# EAGLE library part HD-H107 (library display-hp)
LED DISPLAY + - 1/2 character, decimal point right
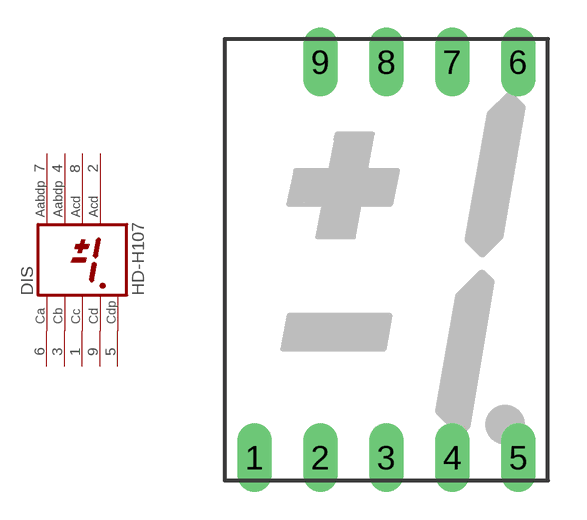
[diagram p23: symbol with the pads of HDSP-O; footprint HDSP-O]

Designator prefix DIS

## HD-H107 (OC_FARNELL: unknown; OC_NEWARK: unknown)  [HDSP-O]
1  CC  pas
2  ACD  pas
3  CB  pas
4  AABDP  pas
5  CDP  pas
6  CA  pas
7  AABDP  pas
8  ACD  pas
9  CD  pas

## Footprint HDSP-O (pad centres in mm)
LED DISPLAY 15-mm + - 1/2 character, decimal point right
drill 0.813 long: 1 -5.08,-7.62; 2 -2.54,-7.62; 3 0,-7.62; 4 2.54,-7.62; 5 5.08,-7.62; 6 5.08,7.62; 7 2.54,7.62; 8 0,7.62; 9 -2.54,7.62